# Altium footprint library MyPcbLib.PcbLib: 66 footprints (part 3 of 5)
Each footprint in its own frame and in the unit in brackets; x right, y up, seen from the top. Pads: shape width x height; smd on the part's side, far side on the other; paste and mask are expansions set on the pad; w line width, h text height; cw(c..) or ccw(c..) is an arc to the next point about the centre after c.
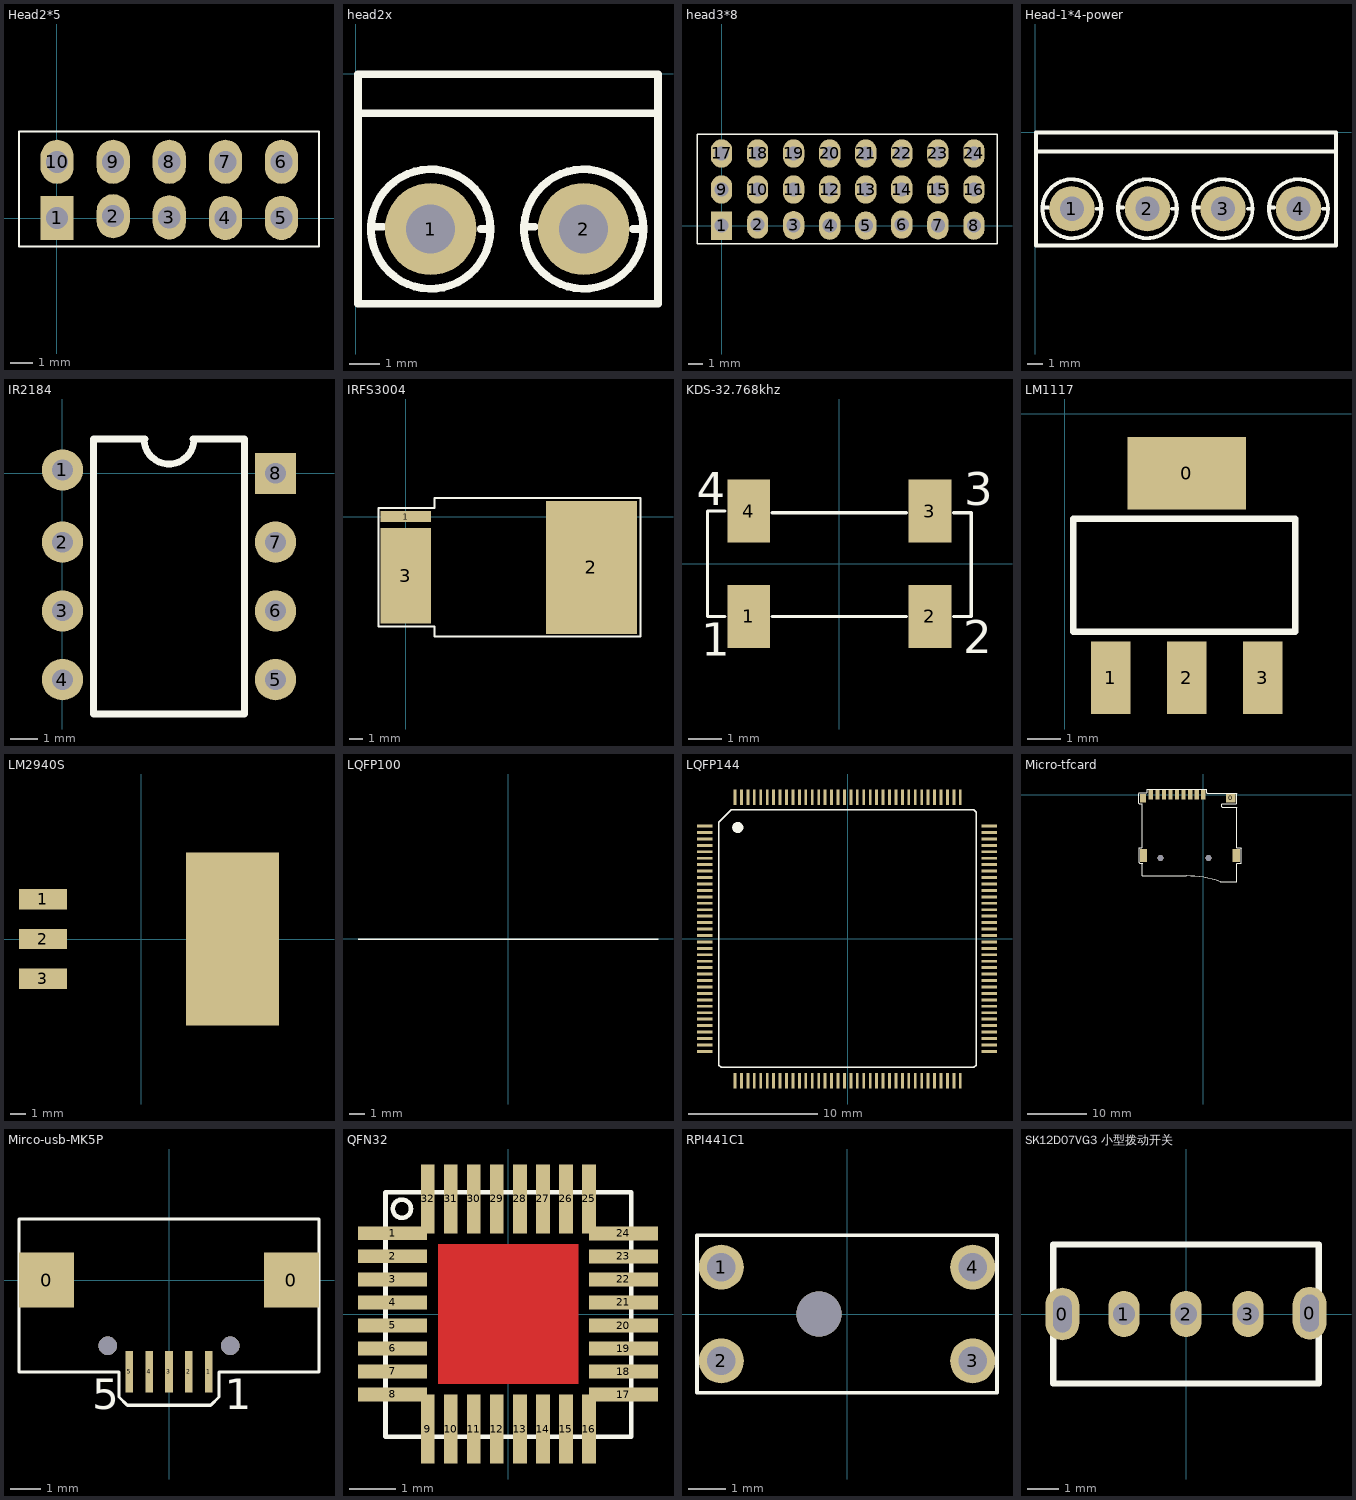
[diagram p2: the footprints below, top view; thin cyan lines are the x and y axes]

## Head2*5 [mm]
height 10
pads (10):
  rect 1.5x2 hole 1: 1(0.025,0.025)
  oval 1.5x2 hole 1: 2(2.565,0.102) 3(5.105,0.051) 4(7.645,0.025) 5(10.185,0.025) 6(10.185,2.565) 7(7.645,2.565) 8(5.105,2.565) 9(2.565,2.565) 10(0.025,2.565)
Top Overlay:
  lines w0.1: -1.702,-1.27 11.887,-1.27 11.887,3.937 -1.702,3.937 -1.702,-1.27

## head2x [mm]
pads (2):
  round 3 hole 1.6: 1(2.453,-5.08) 2(7.453,-5.08)
Top Overlay:
  circle w0.254: c7.453,-5.08 r1.951
  circle w0.254: c2.453,-5.08 r1.952
  lines w0.254: 0.076,-1.295 9.855,-1.295 9.881,-1.27 ; 0.584,-5.004 0.889,-5.004 ; 4.089,-5.08 4.405,-5.08 ; 5.563,-5.004 5.842,-5.004 ; 9.068,-5.08 9.404,-5.08 ; 0.076,-7.518 0.076,-0.025 9.881,-0.025 9.881,-7.518 0.076,-7.518

## head3*8 [mm]
height 10
pads (24):
  rect 1.5x2 hole 1: 1(0,0)
  oval 1.5x2 hole 1: 2(2.54,0.076) 3(5.08,0.025) 4(7.62,0) 5(10.16,0) 6(12.7,0.076) 7(15.24,0.025) 8(17.78,0) 9(0,2.54) 10(2.54,2.54) 11(5.08,2.54) 12(7.62,2.54) 13(10.16,2.54) 14(12.7,2.54) 15(15.24,2.54) 16(17.78,2.54) 17(0,5.08) 18(2.54,5.08) 19(5.08,5.08) 20(7.62,5.08) 21(10.16,5.08) 22(12.7,5.08) 23(15.24,5.08) 24(17.78,5.08)
Top Overlay:
  lines w0.1: -1.727,-1.295 -1.727,6.452 19.406,6.452 19.406,-1.295 -1.727,-1.295

## Head-1*4-power [mm]
height 15
pads (4):
  round 3 hole 1.6: 1(2.428,-5.055) 2(7.428,-5.055) 3(12.435,-5.055) 4(17.435,-5.055)
Top Overlay:
  circle w0.254: c7.428,-5.055 r1.951
  circle w0.254: c2.428,-5.055 r1.952
  circle w0.254: c12.435,-5.055 r1.952
  circle w0.254: c17.435,-5.055 r1.951
  lines w0.254: 0.051,-1.27 19.914,-1.27 ; 0.559,-4.978 0.864,-4.978 ; 4.064,-5.055 4.38,-5.055 ; 5.537,-4.978 5.817,-4.978 ; 9.042,-5.055 9.379,-5.055 ; 10.566,-4.978 10.871,-4.978 ; 14.072,-5.055 14.387,-5.055 ; 15.545,-4.978 15.824,-4.978 ; 19.05,-5.055 19.386,-5.055 ; 0.051,-7.493 0.051,0 19.914,0 19.914,-7.493 0.051,-7.493

## IR2184 [mil]
pads (8):
  round 60 hole 30: 1(0,5) 2(0,-100) 3(0,-200) 4(0,-300) 5(310,-300) 6(310,-200) 7(310,-100)
  rect 60x60 hole 30: 8(310,0)
Top Overlay:
  lines w10: 118.6,50 ccw(c155,50) 191.4,50 ; 120,50 45,50 45,-350 265,-350 265,50 190,50

## IRFS3004 [mm]
pads (3):
  rect 3.794x0.813 smd: 1(0,0)
  rect 6.86x10 smd: 2(13.97,-3.81)
  rect 3.794x7.163 smd: 3(0,-4.445)
Top Overlay:
  lines w0.15: -2.032,-8.255 -2.032,0.635 2.159,0.635 2.159,1.397 10.414,1.397 17.653,1.397 17.653,-9.017 10.287,-9.017 2.159,-9.017 2.159,-8.255 -2.032,-8.255

## KDS-32.768khz [mm]
height 2.4
pads (4):
  rect 1.3x1.9 smd: 1(-2.75,-1.6) 2(2.75,-1.6) 3(2.75,1.6) 4(-2.75,1.6)
Top Overlay:
  lines w0.1: -3.48,-1.6 -4,-1.6 -4,1.6 -3.48,1.6 ; -2.032,-1.6 2.032,-1.6 ; -2.032,1.549 2.032,1.549 ; 3.468,-1.6 3.988,-1.6 ; 3.468,1.549 4,1.549 4,-1.6
  text "4" at -4.318,1.778 h1
  text "3" at 3.785,1.778 h1
  text "2" at 3.759,-2.718 h1
  text "1" at -4.191,-2.794 h1

## LM1117 [mm]
pads (4):
  rect 3.6x2.2 smd: 0(3.697,-1.801)
  rect 1.2x2.2 smd: 1(1.397,-8.001) 2(3.697,-8.001) 3(5.997,-8.001)
Top Overlay:
  lines w0.2: 0.254,-6.604 0.254,-3.175 6.985,-3.175 6.985,-6.604 0.254,-6.604

## LM2940S [mm]
pads (4):
  rect 3.05x1.3 smd: 1(-6.25,2.54) 2(-6.25,0) 3(-6.25,-2.54)
  rect 5.92x11 smd: ""(5.842,0)

## LQFP100 [mm]
Top Overlay:
  lines w0.1: -10.025,-0.008 9.975,-0.008

## LQFP144 [mm]
height 1.6
pads (144):
  rect 1.2x0.22 smd paste+0: 1(-11.1,8.75)
  rect 1.2x0.22 smd: 2(-11.1,8.25) 3(-11.1,7.75) 4(-11.1,7.25) 5(-11.1,6.75) 6(-11.1,6.25) 7(-11.1,5.75) 8(-11.1,5.25) 9(-11.1,4.75) 10(-11.1,4.25) 11(-11.1,3.75) 12(-11.1,3.25) 13(-11.1,2.75) 14(-11.1,2.25) 15(-11.1,1.75) 16(-11.1,1.25) 17(-11.1,0.75) 18(-11.1,0.25) 19(-11.1,-0.25) 20(-11.1,-0.75) 21(-11.1,-1.25) 22(-11.1,-1.75) 23(-11.1,-2.25) 24(-11.1,-2.75) 25(-11.1,-3.25) 26(-11.1,-3.75) 27(-11.1,-4.25) 28(-11.1,-4.75) 29(-11.1,-5.25) 30(-11.1,-5.75) 31(-11.1,-6.25) 32(-11.1,-6.75) 33(-11.1,-7.25) 34(-11.1,-7.75) 35(-11.1,-8.25) 36(-11.1,-8.75) 73(11,-8.75) 74(11,-8.25) 75(11,-7.75) 76(11,-7.25) 77(11,-6.75) 78(11,-6.25) 79(11,-5.75) 80(11,-5.25) 81(11,-4.75) 82(11,-4.25) 83(11,-3.75) 84(11,-3.25) 85(11,-2.75) 86(11,-2.25) 87(11,-1.75) 88(11,-1.25) 89(11,-0.75) 90(11,-0.25) 91(11,0.25) 92(11,0.75) 93(11,1.25) 94(11,1.75) 95(11,2.25) 96(11,2.75) 97(11,3.25) 98(11,3.75) 99(11,4.25) 100(11,4.75) 101(11,5.25) 102(11,5.75) 103(11,6.25) 104(11,6.75) 105(11,7.25) 106(11,7.75) 107(11,8.25) 108(11,8.75)
  rect 0.22x1.2 smd: 37(-8.75,-11.049) 38(-8.25,-11.049) 39(-7.75,-11.049) 40(-7.25,-11.049) 41(-6.75,-11.049) 42(-6.25,-11.049) 43(-5.75,-11.049) 44(-5.25,-11.049) 45(-4.75,-11.049) 46(-4.25,-11.049) 47(-3.75,-11.049) 48(-3.25,-11.049) 49(-2.75,-11.049) 50(-2.25,-11.049) 51(-1.75,-11.049) 52(-1.25,-11.049) 53(-0.75,-11.049) 54(-0.25,-11.049) 55(0.25,-11.049) 56(0.75,-11.049) 57(1.25,-11.049) 58(1.75,-11.049) 59(2.25,-11.049) 60(2.75,-11.049) 61(3.25,-11.049) 62(3.75,-11.049) 63(4.25,-11.049) 64(4.75,-11.049) 65(5.25,-11.049) 66(5.75,-11.049) 67(6.25,-11.049) 68(6.75,-11.049) 69(7.25,-11.049) 70(7.75,-11.049) 71(8.25,-11.049) 72(8.75,-11.049) 109(8.75,11) 110(8.25,11) 111(7.75,11) 112(7.25,11) 113(6.75,11) 114(6.25,11) 115(5.75,11) 116(5.25,11) 117(4.75,11) 118(4.25,11) 119(3.75,11) 120(3.25,11) 121(2.75,11) 122(2.25,11) 123(1.75,11) 124(1.25,11) 125(0.75,11) 126(0.25,11) 127(-0.25,11) 128(-0.75,11) 129(-1.25,11) 130(-1.75,11) 131(-2.25,11) 132(-2.75,11) 133(-3.25,11) 134(-3.75,11) 135(-4.25,11) 136(-4.75,11) 137(-5.25,11) 138(-5.75,11) 139(-6.25,11) 140(-6.75,11) 141(-7.25,11) 142(-7.75,11) 143(-8.25,11) 144(-8.75,11)
Top Overlay:
  circle w0.254: c-8.534,8.636 r0.092
  circle w0.254: c-8.534,8.636 r0.306
  lines w0.1: -10,-9.812 -9.812,-10 9.812,-10 10,-9.812 10,9.812 9.812,10 -9.025,10 -10,9.025 -10,-9.812

## Micro-tfcard [mm]
height 2
pads (13):
  rect 1x1.4 smd: 0(-10.109,-0.61)
  rect 1.2x2.2 smd: 0(-10,-10.2) 0(5.5,-10.2)
  rect 1.6x1.4 smd: 0(4.6,-0.6)
  rect 0.7x1.6 smd: 1(0,0) 2(-1.1,0) 3(-2.2,0) 4(-3.3,0) 5(-4.4,0) 6(-5.5,0) 7(-6.6,0) 8(-7.7,0) 9(-8.8,0)
via 0.85,-10.6 diameter 1 hole 1
via -7.15,-10.6 diameter 1 hole 1
Top Overlay:
  lines w0.1: 2.848,-14.556 ccw(c-2.904,-31.445) -2.87,-13.603 -10.236,-13.589 -10.236,-11.532 -10.262,-11.506 -10.668,-11.506 -10.77,-11.405 -10.77,-8.966 -10.693,-8.89 -10.312,-8.89 -10.236,-8.814 -10.236,-1.524 -10.719,-1.524 -10.82,-1.422 -10.82,0.203 -10.693,0.33 -9.449,0.33 -9.373,0.406 -9.373,0.889 -9.296,0.965 0.483,0.965 0.533,0.914 0.533,0.356 0.61,0.279 5.486,0.279 5.588,0.178 5.588,-1.422 5.512,-1.499 3.15,-1.499 3.048,-1.6 3.048,-2.007 3.15,-2.108 5.512,-2.108 5.588,-2.184 5.588,-8.915 6.248,-8.915 6.325,-8.992 6.325,-11.455 6.274,-11.506 5.664,-11.506 5.588,-11.582 5.588,-12.116 5.588,-12.427 5.588,-14.554 2.87,-14.554

## Mirco-usb-MK5P [mm]
height 5
pads (7):
  rect 1.8x1.8 smd: 0(-4,0) 0(4,0)
  rect 0.25x1.35 smd: 1(1.3,-3) 2(0.65,-3) 3(0,-3) 4(-0.65,-3) 5(-1.3,-3)
via 2,-2.15 diameter 0.6 hole 0.6
via -2,-2.15 diameter 0.6 hole 0.6
Top Overlay:
  lines w0.1: -4.9,-3 -4.9,2 4.9,2 4.9,-3 1.633,-3 1.633,-3.048 1.633,-3.817 1.361,-4.089 -1.361,-4.089 -1.633,-3.817 -1.633,-2.997 -2.447,-2.997 -2.45,-3 -4.9,-3
  text "5" at -2.515,-4.216 h1
  text "1" at 1.829,-4.216 h1

## QFN32 [mm]
pads (32):
  rect 1.5x0.3 smd: 1(-2.515,1.753) 2(-2.515,1.253) 3(-2.515,0.753) 4(-2.515,0.253) 5(-2.515,-0.247) 6(-2.515,-0.747) 7(-2.515,-1.247) 8(-2.515,-1.747) 17(2.5,-1.75) 18(2.5,-1.25) 19(2.5,-0.75) 20(2.5,-0.25) 21(2.5,0.25) 22(2.5,0.75) 23(2.5,1.25) 24(2.5,1.75)
  rect 0.3x1.5 smd: 9(-1.75,-2.5) 10(-1.25,-2.5) 11(-0.75,-2.5) 12(-0.25,-2.5) 13(0.25,-2.5) 14(0.75,-2.5) 15(1.25,-2.5) 16(1.75,-2.5) 25(1.75,2.5) 26(1.25,2.5) 27(0.75,2.5) 28(0.25,2.5) 29(-0.25,2.5) 30(-0.75,2.5) 31(-1.25,2.5) 32(-1.75,2.5)
Top Layer:
  rectangle: -1.524,-1.524 1.524,1.524
Top Overlay:
  circle w0.1: c-2.311,2.286 r0.198
  lines w0.1: -2.667,-2.667 1.93,-2.667 2.667,-2.667 2.667,2.007 2.667,2.642 -2.667,2.642 -2.667,-1.905 -2.667,-2.667

## RPI441C1 [mm]
height 5.2
pads (4):
  round 1.2 hole 0.762: 1(-3.35,1.25) 2(-3.35,-1.25) 3(3.35,-1.25) 4(3.35,1.25)
via -0.75,0 diameter 1.2 hole 1.2
Top Overlay:
  lines w0.1: -4,-2.1 4,-2.1 4,2.1 -4,2.1 -4,-2.1

## SK12D07VG3 小型拨动开关 [mm]
height 4.5
pads (5):
  oval 1.1x1.7 hole 0.6 slot 1.2 at 90 deg: 0(-4,0) 0(4,0.025)
  oval 1x1.5 hole 0.7: 1(-2.007,0) 2(0,0) 3(2.007,0)
Top Overlay:
  lines w0.2: -4.3,-2.25 4.3,-2.25 ; -4.3,2.25 4.293,2.25 4.293,-2.21 ; -4.293,-2.21 -4.293,2.21